# Altium integrated library LCD.IntLib: 1 symbol
Pins are listed as number, name and electrical type; pins without a type are passive.

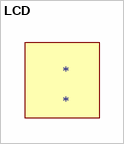
[diagram p0: symbol LCD]

## LCD
designator *
footprint PCBComponent_1